# Altium schematic symbol library Schematic Library.SchLib: 1 symbol
Pins are listed as number, name and electrical type; pins without a type are passive.

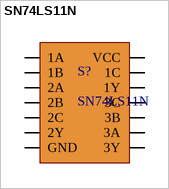
[diagram p0: symbol SN74LS11N]

## SN74LS11N
designator S?
AND Gate 3-Element 3-IN Bipolar 14-Pin PDIP Tube; Manufacturer: Texas Instruments; Propagation Delay: 20ns; Output Current: 8mA; Number of Gates: 3; Quiescent Current: 3.3mA; Operating Supply Voltage: 5V; Number of Outputs: 1; Max Supply Voltage: 5.25V; Min Supply Voltage: 4.75V; High Level Output Current: -400uA; Schmitt Trigger Input: No; Supplier 1: Digi-Key; Manufacturer Part Number: SN74LS11N; RoHS: Yes; Category: Logic Gates; Stock 1: 479; Pricing 1: 1=0.84000, 10=0.73800, 25=0.69320, 100=0.56590, 250=0.52560, 500=0.44732, 1000=0.35786, 2500=0.32431, 5000=0.30194 (USD); Mount: Through Hole; Case/Package: PDIP; Number of Pins: 14; Weight: 0.032734oz; Min Operating Temperature: 0°C; Max Operating Temperature: 70°C; Packaging: Rail/Tube; Number of Circuits: 3; Number of Bits: 3; Package Quantity: 25; Number of Inputs: 3; Logic Function: AND GATE; Max Output Current: 8mA; Number of Elements: 3; Number of Input Lines: 3; Number of Output Lines: 1; Low Level Output Current: 8mA; Turn-On Delay Time: 20ns; Termination: Through Hole; Length: 19.3mm; Width: 6.35mm; Height: 4.57mm; Radiation Hardening: No; REACH SVHC: No SVHC; Lead Free: Lead Free; RoHS Compliant: Yes; ComponentLink1URL: https://datasheet.ciiva.com/15090/getdatasheetpartid-48969-15090244.pdf?src-supplier=Verical; ComponentLink1Description: https://datasheet.ciiva.com/15090/getdatasheetpartid-48969-15090244.pdf?src-supplier=Verical; ComponentLink2URL: https://datasheet.ciiva.com/14134/jb645521-e-14134400.pdf?src-supplier=Distrelec; ComponentLink2Description: https://datasheet.ciiva.com/14134/jb645521-e-14134400.pdf?src-supplier=Distrelec; ComponentLink3URL: https://datasheet.ciiva.com/14666/0900766b800a3f35-14666841.pdf?src-supplier=RSComponents; ComponentLink3Description: https://datasheet.ciiva.com/14666/0900766b800a3f35-14666841.pdf?src-supplier=RSComponents; ComponentLink4URL: https://datasheet.ciiva.com/41456/001016884-da-01-en-ic-trp-3in-and-g-s-sn74ls11n-pdip-14-tid-41456520.pdf?src-supplier=Conrad; ComponentLink4Description: https://datasheet.ciiva.com/41456/001016884-da-01-en-ic-trp-3in-and-g-s-sn74ls11n-pdip-14-tid-41456520.pdf?src-supplier=Conrad; ComponentLink5URL: https://datasheet.ciiva.com/26242/sn54ls11-26242885.pdf?src-supplier=Avnet+Europe; ComponentLink5Description: https://datasheet.ciiva.com/26242/sn54ls11-26242885.pdf?src-supplier=Avnet+Europe; ComponentLink6URL: https://datasheet.ciiva.com/7783/1767254-7783079.pdf?src-supplier=Element14; ComponentLink6Description: https://datasheet.ciiva.com/7783/1767254-7783079.pdf?src-supplier=Element14; ComponentLink7URL: https://datasheet.ciiva.com/14290/sn54ls11-14290796.pdf?src-supplier=Avnet; ComponentLink7Description: https://datasheet.ciiva.com/14290/sn54ls11-14290796.pdf?src-supplier=Avnet; Supplier Part Number 1: 296-3638-ND
pins: 1 1A, 2 1B, 3 2A, 4 2B, 5 2C, 6 2Y, 7 GND, 8 3Y, 9 3A, 10 3B, 11 3C, 12 1Y, 13 1C, 14 VCC